# Altium integrated library Maxim RF and IF Transmitter.IntLib: 1 symbol
Pins are listed as number, name and electrical type; pins without a type are passive.

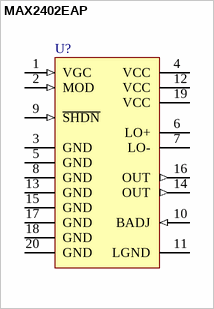
[diagram p0: symbol MAX2402EAP]

## MAX2402EAP
designator U?
800MHz to 1000MHz Transmitter; Published: 16-Jan-2001; LatestRevisionDate: 29-May-2009; LatestRevisionNote: IPC-7351 Footprint Added.; DatasheetVersion: May-1996; PackageVersion: 1997; PackageReference: SSOP20; Publisher: Altium Limited; PackageDescription: 20-Pin Small Outline Package 0.65 mm Pitch; Code_JEDEC: MO-150-AE; Code_IPC: SOP65P780-20; ComponentLink1Description: Manufacturer Link; ComponentLink1URL: http://www.maxim-ic.com/; ComponentLink2Description: Datasheet; ComponentLink2URL: http://pdfserv.maxim-ic.com/en/ds/MAX2402.pdf
footprint SSOP20_N (SOP, 20-Leads, Body 7.2x5.3mm, Pitch 0.65mm, IPC Medium Density)
footprint SSOP20_L (SOP, 20-Leads, Body 7.2x5.3mm, Pitch 0.65mm, IPC High Density)
footprint SSOP20_M (SOP, 20-Leads, Body 7.2x5.3mm, Pitch 0.65mm, IPC Low Density)
3D model SSOP20 (20-Pin Small Outline Package 0.65 mm Pitch)
pins: 1 VGC (in), 2 MOD (in), 3 GND (power), 4 VCC (power), 5 GND (power), 6 LO+, 7 LO-, 8 GND (power), 9 ~{SHDN} (in), 10 BADJ (in), 11 LGND, 12 VCC (power), 13 GND (power), 14 OUT (out), 15 GND (power), 16 OUT (out), 17 GND (power), 18 GND (power), 19 VCC (power), 20 GND (power)